# Altium schematic symbol library Transmitter_libarary.SchLib: 1 symbol
Pins are listed as number, name and electrical type; pins without a type are passive.

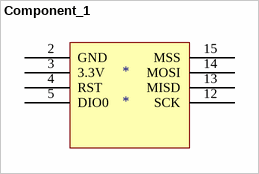
[diagram p0: symbol Component_1]

## Component_1
designator *
footprint DIP16 - duplicate1
pins: 2 GND, 3 3.3V, 4 RST, 5 DIO0, 12 SCK, 13 MISD, 14 MOSI, 15 MSS